# EAGLE library part TPIC6B595 (library TPIC6B595)
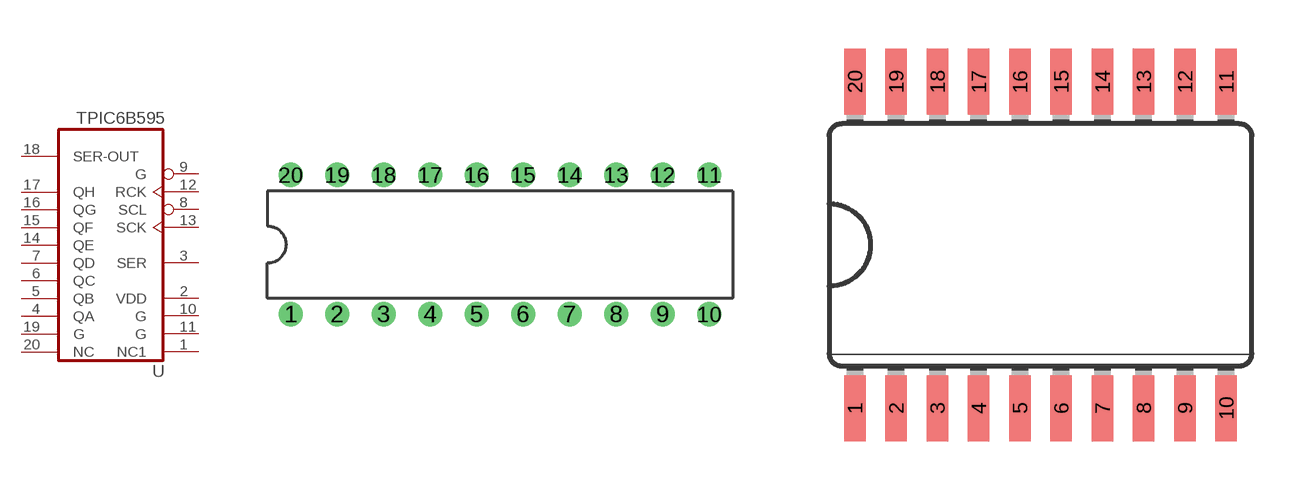
[diagram p0: symbol with the pads of DIL20; footprints DIL20, SO20W]

Designator prefix -

## TPIC6B595  [DIL20]
1  NC1  nc
2  VDD  pwr
3  SER  in
4  QA  hiz
5  QB  hiz
6  QC  hiz
7  QD  hiz
8  SCL  in
9  G  in
10  G  pwr
11  G  pwr
12  RCK  in
13  SCK  in
14  QE  hiz
15  QF  hiz
16  QG  hiz
17  QH  hiz
18  SER-OUT  hiz
19  G  hiz
20  NC  nc

## TPIC6B595SO20W  [SO20W]
Pads as for DIL20

## Footprint DIL20 (pad centres in mm)
drill 0.813: 1 -11.43,-3.81; 2 -8.89,-3.81; 3 -6.35,-3.81; 4 -3.81,-3.81; 5 -1.27,-3.81; 6 1.27,-3.81; 7 3.81,-3.81; 8 6.35,-3.81; 9 8.89,-3.81; 10 11.43,-3.81; 11 11.43,3.81; 12 8.89,3.81; 13 6.35,3.81; 14 3.81,3.81; 15 1.27,3.81; 16 -1.27,3.81; 17 -3.81,3.81; 18 -6.35,3.81; 19 -8.89,3.81; 20 -11.43,3.81

## Footprint SO20W (pad centres in mm)
smd 0.66 x 2.032: 1 -5.715,-5.029; 2 -4.445,-5.029; 3 -3.175,-5.029; 4 -1.905,-5.029; 5 -0.635,-5.029; 6 0.635,-5.029; 7 1.905,-5.029; 8 3.175,-5.029; 9 4.445,-5.029; 10 5.715,-5.029; 11 5.715,5.029; 12 4.445,5.029; 13 3.175,5.029; 14 1.905,5.029; 15 0.635,5.029; 16 -0.635,5.029; 17 -1.905,5.029; 18 -3.175,5.029; 19 -4.445,5.029; 20 -5.715,5.029